# Altium schematic symbol library F1_MODULE.SchLib: 19 symbols (part 1 of 2)
Pins are listed as number, name and electrical type; pins without a type are passive.

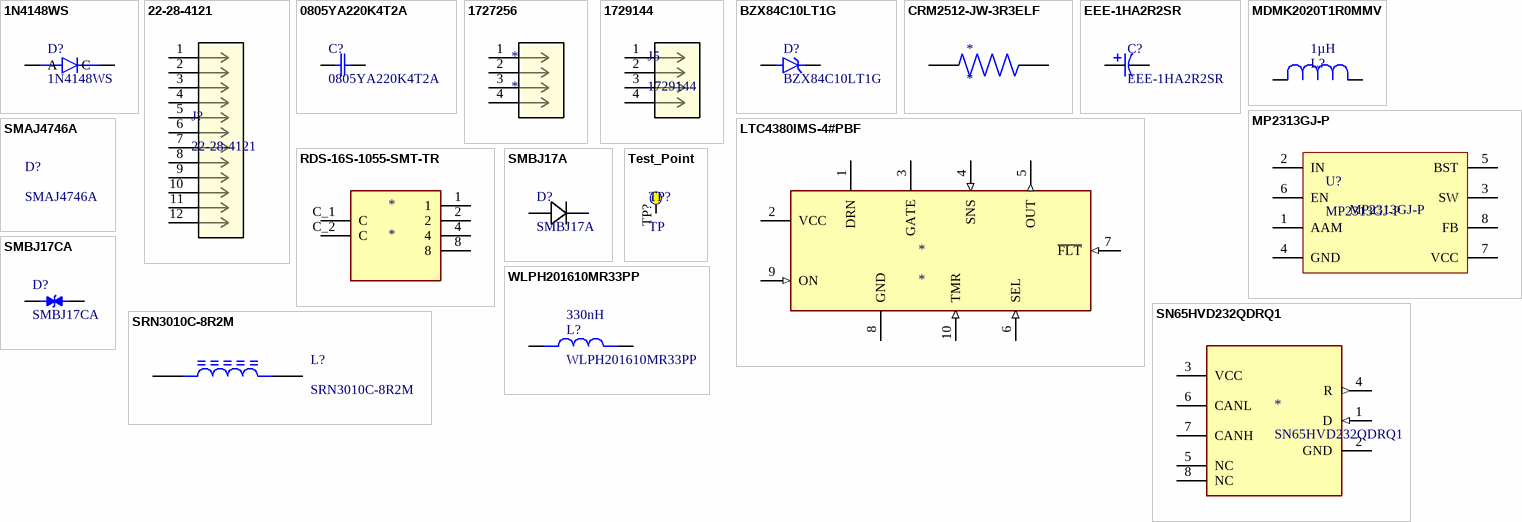
[diagram p0: symbols 1N4148WS to WLPH201610MR33PP]

## 1N4148WS
designator D?
Diode Ultra Fast Recovery Rectifier 75V 0.15A 2-Pin SOD-323F T/R; Manufacturer: onsemi; Manufacturer Lifecycle Status: ACTIVE; Average Rectified Current: 150mA; Value: 4pF; Element Configuration: Single; Forward Voltage: 1V; Max Forward Surge Current (Ifsm): 4A; Max Junction Temperature (Tj): 150°C; Max Power Dissipation: 200mW; Number of Elements: 1; Peak Reverse Current: 5µA; Recovery Time: 4ns; Supplier: RS; Supplier Part Number: 7613476P; Manufacturer Part Number: 1N4148WS; RoHS: Compliant; Category: Rectifier Diodes; Stock: 40930; Pricing: 500=0.051, 1000=0.044 (EUR); China RoHS: Compliant; Contact Plating: Tin; Forward Current: 150mA; Height: 900µm; Lead Free: Lead Free; Length: 1.8mm; Lifecycle Status: Production; Max Operating Temperature: 150°C; Max Output current: 150mA; Max Repetitive Reverse Voltage (Vrrm): 75V; Max Reverse Voltage (DC): 75V; Min Operating Temperature: -55°C; Mounting Technology: Surface Mount; Pins: 2; Number of Terminals: 2; Packaging: Cut Tape; Power Dissipation: 200mW; Radiation Hardening: No; REACH SVHC: Yes; Reverse Recovery Time: 4ns; Reverse Standoff Voltage: 75V; Reverse Voltage: 75V; Schedule B: 8541100070, 8541100070|8541100070|8541100070|8541100070|8541100070|8541100070|8541100070|8541100070|8541100070|8541100070|8541100070|8541100070|8541100070|8541100070|8541100070|8541100070|8541100070|8541100070|8541100070|8541100070|8541100070|8541100070|8541100070|85; Weight: 27.6mg; Width: 1.35mm; ComponentLink1URL: https://datasheet.octopart.com:443/1N4148WS-ON-Semiconductor-datasheet-154551630.pdf?src-supplier=Farnell; ComponentLink1Description: https://datasheet.octopart.com:443/1N4148WS-ON-Semiconductor-datasheet-154551630.pdf?src-supplier=Farnell; ComponentLink2URL: https://datasheet.octopart.com:443/1N4148WS-Fairchild-Semiconductor-datasheet-67878664.pdf?src-supplier=Farnell; ComponentLink2Description: https://datasheet.octopart.com:443/1N4148WS-Fairchild-Semiconductor-datasheet-67878664.pdf?src-supplier=Farnell; ComponentLink3URL: https://datasheet.octopart.com:443/1N4148WS-Fairchild-Semiconductor-datasheet-68650011.pdf?src-supplier=Farnell; ComponentLink3Description: https://datasheet.octopart.com:443/1N4148WS-Fairchild-Semiconductor-datasheet-68650011.pdf?src-supplier=Farnell; ComponentLink4URL: https://datasheet.octopart.com:443/1N4148WS-ON-Semiconductor-datasheet-11741836.pdf?src-supplier=Upverter; ComponentLink4Description: https://datasheet.octopart.com:443/1N4148WS-ON-Semiconductor-datasheet-11741836.pdf?src-supplier=Upverter; ComponentLink5URL: https://datasheet.octopart.com:443/1N4148WS-ON-Semiconductor-datasheet-137236190.pdf?src-supplier=Upverter; ComponentLink5Description: https://datasheet.octopart.com:443/1N4148WS-ON-Semiconductor-datasheet-137236190.pdf?src-supplier=Upverter; ComponentLink6URL: https://sigma.octopart.com:443/138895951/technical_drawing/ON-Semiconductor-1N4148WS.pdf?src-supplier=Upverter; ComponentLink6Description: https://sigma.octopart.com:443/138895951/technical_drawing/ON-Semiconductor-1N4148WS.pdf?src-supplier=Upverter; ComponentLink7URL: https://datasheet.octopart.com:443/1N4148WS-ON-Semiconductor-datasheet-41168538.pdf?src-supplier=IHS; ComponentLink7Description: https://datasheet.octopart.com:443/1N4148WS-ON-Semiconductor-datasheet-41168538.pdf?src-supplier=IHS; ComponentLink8URL: https://datasheet.octopart.com:443/1N4148WS-onsemi-datasheet-175423434.pdf?src-supplier=IHS; ComponentLink8Description: https://datasheet.octopart.com:443/1N4148WS-onsemi-datasheet-175423434.pdf?src-supplier=IHS; ComponentLink9URL: https://datasheet.octopart.com:443/1N4148WS-onsemi-datasheet-181265883.pdf?src-supplier=IHS; ComponentLink9Description: https://datasheet.octopart.com:443/1N4148WS-onsemi-datasheet-181265883.pdf?src-supplier=IHS; ComponentLink10URL: https://datasheet.octopart.com:443/1N4148WS-ON-Semiconductor-datasheet-85393213.pdf?src-supplier=onsemi; ComponentLink10Description: https://datasheet.octopart.com:443/1N4148WS-ON-Semiconductor-datasheet-85393213.pdf?src-supplier=onsemi; ComponentLink11URL: https://datasheet.octopart.com:443/1N4148WS-ON-Semiconductor-datasheet-86684483.pdf?src-supplier=onsemi; ComponentLink11Description: https://datasheet.octopart.com:443/1N4148WS-ON-Semiconductor-datasheet-86684483.pdf?src-supplier=onsemi; ComponentLink12URL: https://datasheet.octopart.com:443/1N4148WS-ON-Semiconductor-datasheet-86681927.pdf?src-supplier=element14+APAC; ComponentLink12Description: https://datasheet.octopart.com:443/1N4148WS-ON-Semiconductor-datasheet-86681927.pdf?src-supplier=element14+APAC; ComponentLink13URL: https://datasheet.octopart.com:443/1N4148WS-Fairchild-datasheet-514620.pdf?src-supplier=Fairchild+Semiconductor; ComponentLink13Description: https://datasheet.octopart.com:443/1N4148WS-Fairchild-datasheet-514620.pdf?src-supplier=Fairchild+Semiconductor; ComponentLink14URL: https://sigma.octopart.com:443/17343424/technical_drawing/Fairchild-Semiconductor-1N4148WS.pdf?src-supplier=Fairchild+Semiconductor; ComponentLink14Description: https://sigma.octopart.com:443/17343424/technical_drawing/Fairchild-Semiconductor-1N4148WS.pdf?src-supplier=Fairchild+Semiconductor; ComponentLink15URL: https://datasheet.octopart.com:443/1N4148WS-Fairchild-Semiconductor-datasheet-14041777.pdf?src-supplier=iiiC; ComponentLink15Description: https://datasheet.octopart.com:443/1N4148WS-Fairchild-Semiconductor-datasheet-14041777.pdf?src-supplier=iiiC; ComponentLink16URL: https://datasheet.octopart.com:443/1N4148WS-Fairchild-Semiconductor-datasheet-67909704.pdf?src-supplier=Newark; ComponentLink16Description: https://datasheet.octopart.com:443/1N4148WS-Fairchild-Semiconductor-datasheet-67909704.pdf?src-supplier=Newark; ComponentLink17URL: https://datasheet.octopart.com:443/1N4148WS-Fairchild-Semiconductor-datasheet-68364970.pdf?src-supplier=Newark; ComponentLink17Description: https://datasheet.octopart.com:443/1N4148WS-Fairchild-Semiconductor-datasheet-68364970.pdf?src-supplier=Newark; ComponentLink18URL: http://sigma.octopart.com:80/150599222/rohs_statement/ON-Semiconductor-1N4148WS.pdf?src-supplier=Compliance+Statements; ComponentLink18Description: http://sigma.octopart.com:80/150599222/rohs_statement/ON-Semiconductor-1N4148WS.pdf?src-supplier=Compliance+Statements; ComponentLink19URL: http://sigma.octopart.com:80/17343422/reach_statement/Fairchild-Semiconductor-1N4148WS.pdf?src-supplier=Compliance+Statements; ComponentLink19Description: http://sigma.octopart.com:80/17343422/reach_statement/Fairchild-Semiconductor-1N4148WS.pdf?src-supplier=Compliance+Statements; ComponentLink20URL: http://sigma.octopart.com:80/17343423/materials_sheet/Fairchild-Semiconductor-1N4148WS.pdf?src-supplier=Compliance+Statements; ComponentLink20Description: http://sigma.octopart.com:80/17343423/materials_sheet/Fairchild-Semiconductor-1N4148WS.pdf?src-supplier=Compliance+Statements; ComponentLink21URL: http://sigma.octopart.com:80/33026183/reach_statement/Fairchild-Semiconductor-1N4148WS.pdf?src-supplier=Compliance+Statements; ComponentLink21Description: http://sigma.octopart.com:80/33026183/reach_statement/Fairchild-Semiconductor-1N4148WS.pdf?src-supplier=Compliance+Statements; ComponentLink22URL: http://sigma.octopart.com:80/33026185/materials_sheet/Fairchild-Semiconductor-1N4148WS.pdf?src-supplier=Compliance+Statements; ComponentLink22Description: http://sigma.octopart.com:80/33026185/materials_sheet/Fairchild-Semiconductor-1N4148WS.pdf?src-supplier=Compliance+Statements; ComponentLink23URL: http://sigma.octopart.com:80/reach_statement/ON-Semiconductor-company-79.pdf?src-supplier=Compliance+Statements; ComponentLink23Description: http://sigma.octopart.com:80/reach_statement/ON-Semiconductor-company-79.pdf?src-supplier=Compliance+Statements; ComponentLink24URL: http://sigma.octopart.com:80/reach_statement/Fairchild-Semiconductor-company-9.pdf?src-supplier=Compliance+Statements; ComponentLink24Description: http://sigma.octopart.com:80/reach_statement/Fairchild-Semiconductor-company-9.pdf?src-supplier=Compliance+Statements; ComponentLink25URL: http://sigma.octopart.com:80/rohs_statement/Fairchild-Semiconductor-company-10.pdf?src-supplier=Compliance+Statements; ComponentLink25Description: http://sigma.octopart.com:80/rohs_statement/Fairchild-Semiconductor-company-10.pdf?src-supplier=Compliance+Statements; ComponentLink26URL: http://sigma.octopart.com:80/rohs_statement/Fairchild-Semiconductor-company-11.pdf?src-supplier=Compliance+Statements; ComponentLink26Description: http://sigma.octopart.com:80/rohs_statement/Fairchild-Semiconductor-company-11.pdf?src-supplier=Compliance+Statements; ComponentLink27URL: https://octopart.com:443/opatz8j6/c1?t=1OmHh4NJTXKCkb5wrA0hduP2jSjjwfnHWiavLQ4ngBfysFzTaHmH6nHvTucDV-B2O-MDJQ2axzG3m7pQWLeVWG7srVrkh4NGbnBnlNZO-6YvFZQaCf2pnajLKu10E0vDRh8hBeoXspAHt7uTrrKp0Nrfyna9_-3Q9g1KFLPO5x2e_2WPzlWIAd0S7_3b7Ts18wto9QiopHYkCO7lspN9FD86xikSy0J2zEvHMbHfZKHxUhjXLfd1CVoEuwYuGmjWLJWQNxOxOpN1Uz1HG-l28pmFj4Iwpdjl_bauQFCLAa4kH93r3xm3WSUTNZ-7itdl_qILozCqlFFb1dwE_6pqjLhFmoprn_g94l-X&src-supplier=Compliance+Statements; ComponentLink27Description: https://octopart.com:443/opatz8j6/c1?t=1OmHh4NJTXKCkb5wrA0hduP2jSjjwfnHWiavLQ4ngBfysFzTaHmH6nHvTucDV-B2O-MDJQ2axzG3m7pQWLeVWG7srVrkh4NGbnBnlNZO-6YvFZQaCf2pnajLKu10E0vDRh8hBeoXspAHt7uTrrKp0Nrfyna9_-3Q9g1KFLPO5x2e_2WPzlWIAd0S7_3b7Ts18wto9QiopHYkCO7lspN9FD86xikSy0J2zEvHMbHfZKHxUhjXLfd1CVoEuwYuGmjWLJWQNxOxOpN1Uz1HG-l28pmFj4Iwpdjl_bauQFCLAa4kH93r3xm3WSUTNZ-7itdl_qILozCqlFFb1dwE_6pqjLhFmoprn_g94l-X&src-supplier=Compliance+Statements; ComponentLink28URL: https://octopart.com:443/opatz8j6/c1?t=6450IfVOB2zZEuwuRz4xfzpK9bszWwwiGNlRO2jvw-fY0DFZJpFzOkz_M_GVnLN67xQ32Al7ZRIOSX2fPnApMdJSXwOVQIFtXomJFVInF_bGsK7WMYRYR3M47Jn7AXIDAu9t5FFYiVrpnExxyCfG_QObsuhCMgIJjizqmG3BVze06Otd7Fj6LPFpMcXZZAMO1mWuPTS8pLt5kADT123iycIAWeIAS9KgO80LH8PUIkauHGB_xj-tiY1NOQPWZwbN339OUVdB5iOAXcnt-y8hETtXP_1hyLOFja_q-lJol69SLfbNjTRclRfdM6McWVYAYpDuB1Z6txPcOq52uyClJ1olaLQJdp4A-MAVkQ&src-supplier=Compliance+Statements; ComponentLink28Description: https://octopart.com:443/opatz8j6/c1?t=6450IfVOB2zZEuwuRz4xfzpK9bszWwwiGNlRO2jvw-fY0DFZJpFzOkz_M_GVnLN67xQ32Al7ZRIOSX2fPnApMdJSXwOVQIFtXomJFVInF_bGsK7WMYRYR3M47Jn7AXIDAu9t5FFYiVrpnExxyCfG_QObsuhCMgIJjizqmG3BVze06Otd7Fj6LPFpMcXZZAMO1mWuPTS8pLt5kADT123iycIAWeIAS9KgO80LH8PUIkauHGB_xj-tiY1NOQPWZwbN339OUVdB5iOAXcnt-y8hETtXP_1hyLOFja_q-lJol69SLfbNjTRclRfdM6McWVYAYpDuB1Z6txPcOq52uyClJ1olaLQJdp4A-MAVkQ&src-supplier=Compliance+Statements
footprint DIODE
pins: A, C

## 22-28-4121
designator J?
KK 254 Breakaway Header, Vertical, 12 Circuits, Tin (Sn) Plating, Mating Pin Length 8.13mm; Manufacturer: Molex; Manufacturer Lifecycle Status: ACTIVE; Connector Type: Male Pin; Contact Resistance: 20mΩ; Current Rating: 4A; Gender: Male; Insulation Resistance: 50GΩ; Max Voltage Rating (AC): 250V; Number of Circuits: 12; Pitch: 2.54mm; Supplier: Farnell; Supplier Part Number: 4232426; Manufacturer Part Number: 22-28-4121; RoHS: Compliant; Category: Headers and Wire Housings; Stock: 4391; Pricing: 300=0.506, 900=0.491 (EUR); China RoHS: Compliant; Color: Black; Contact Gender: Male; Contact Material: Bronze; Contact Mating Length: 8.128mm; Contact Plating: Tin; Country of Origin: US; Depth: 2.49mm; Housing Color: Black; Housing Material: Thermoplastic; Lead Free: Lead Free; Length: 30.48mm; Lifecycle Status: Production; Max Operating Temperature: 75°C; Min Operating Temperature: -40°C; Mounting Technology: Through Hole; Number of Contacts: 12; Pins: 12; Number of Positions: 12; Number of Rows: 1; Orientation: Vertical; Packaging: Bulk; Plating: Tin; REACH SVHC: Yes; Terminal Pitch: 2.54mm; Termination: Solder; ComponentLink1URL: https://datasheet.octopart.com:443/22-28-4121-Molex-datasheet-166051265.pdf?src-supplier=IHS; ComponentLink1Description: https://datasheet.octopart.com:443/22-28-4121-Molex-datasheet-166051265.pdf?src-supplier=IHS; ComponentLink2URL: https://datasheet.octopart.com:443/22-28-4121-Molex-datasheet-16300599.pdf?src-supplier=Molex; ComponentLink2Description: https://datasheet.octopart.com:443/22-28-4121-Molex-datasheet-16300599.pdf?src-supplier=Molex; ComponentLink3URL: https://sigma.octopart.com:443/16300370/technical_drawing/Molex-22-28-4121.pdf?src-supplier=Molex; ComponentLink3Description: https://sigma.octopart.com:443/16300370/technical_drawing/Molex-22-28-4121.pdf?src-supplier=Molex; ComponentLink4URL: https://datasheet.octopart.com:443/022284121-Molex-datasheet-8334776.pdf?src-supplier=Molex; ComponentLink4Description: https://datasheet.octopart.com:443/022284121-Molex-datasheet-8334776.pdf?src-supplier=Molex; ComponentLink5URL: https://datasheet.octopart.com:443/22-28-4121-Molex-datasheet-147975.pdf?src-supplier=DigiKey; ComponentLink5Description: https://datasheet.octopart.com:443/22-28-4121-Molex-datasheet-147975.pdf?src-supplier=DigiKey; ComponentLink6URL: http://sigma.octopart.com:80/16300600/rohs_statement/Molex-22-28-4121.pdf?src-supplier=Compliance+Statements; ComponentLink6Description: http://sigma.octopart.com:80/16300600/rohs_statement/Molex-22-28-4121.pdf?src-supplier=Compliance+Statements; ComponentLink7URL: http://sigma.octopart.com:80/conflict_mineral_statement/Molex-company-72.pdf?src-supplier=Compliance+Statements; ComponentLink7Description: http://sigma.octopart.com:80/conflict_mineral_statement/Molex-company-72.pdf?src-supplier=Compliance+Statements; ComponentLink8URL: http://sigma.octopart.com:80/rohs_statement/Molex-company-73.pdf?src-supplier=Compliance+Statements; ComponentLink8Description: http://sigma.octopart.com:80/rohs_statement/Molex-company-73.pdf?src-supplier=Compliance+Statements; ComponentLink9URL: http://sigma.octopart.com:80/reach_statement/Molex-company-74.pdf?src-supplier=Compliance+Statements; ComponentLink9Description: http://sigma.octopart.com:80/reach_statement/Molex-company-74.pdf?src-supplier=Compliance+Statements
footprint 12 POS_2.54MM_MOLEX
pins: 1, 2, 3, 4, 5, 6, 7, 8, 9, 10, 11, 12

## 0805YA220K4T2A
designator C?
Cap Ceramic 22pF 16V C0G 10% 0805 T/R; Manufacturer: KYOCERA AVX; Supplier: Mouser; Supplier Part Number: 581-0805YA220K4T2A; Manufacturer Part Number: 0805YA220K4T2A; RoHS: Compliant; Category: Ceramic Capacitors; Stock: 7924; Pricing: 1=0.21, 10=0.121, 50=0.121, 100=0.073, 1000=0.05, 10000=0.037 (USD); Value: 22pF; Case/Package: 0805; Voltage Rating (DC): 16V; ComponentLink1URL: https://datasheet.octopart.com/0805YA220K4T2A-KYOCERA-AVX-datasheet-13516023.pdf; ComponentLink1Description: https://datasheet.octopart.com/0805YA220K4T2A-KYOCERA-AVX-datasheet-13516023.pdf; ComponentLink2URL: http://sigma.octopart.com:80/reach_statement/AVX-company-19.pdf?src-supplier=Compliance+Statements; ComponentLink2Description: http://sigma.octopart.com:80/reach_statement/AVX-company-19.pdf?src-supplier=Compliance+Statements; ComponentLink3URL: http://sigma.octopart.com:80/conflict_mineral_statement/AVX-company-34.pdf?src-supplier=Compliance+Statements; ComponentLink3Description: http://sigma.octopart.com:80/conflict_mineral_statement/AVX-company-34.pdf?src-supplier=Compliance+Statements
footprint CAP_0805
pins: 1, 2

## 1727256
designator *
PCB terminal, 4 pole, pitch 3.81 mm, AWG 26-16, 8 A, screw connection, black, 1727256; Manufacturer: Phoenix Contact; Approvals: UL; Current: 13.5A; Current Rating: 8A; Max Supply Voltage: 160V; Number of Circuits: 4; Number of Levels: 1; Pitch: 3.81mm; Voltage: 300V; Wire/Cable Gauge: 16AWG; Wire Gauge (Max): 30AWG; Supplier: DigiKey; Supplier Part Number: 277-6702-ND; Manufacturer Part Number: 1727256; RoHS: Compliant; Category: Terminal Blocks; Stock: 25; Pricing: 1=3.57, 23=2.55783 (USD); China RoHS: Compliant; Color: Black; Contact Material: Tin; Depth: 7.3mm; Flammability Rating: UL94 V-0; Height: 9.3mm; Housing Color: Black; Housing Material: Polyamide; Lead Free: Lead Free; Length: 22.86mm; Lifecycle Status: EOL; Material: Polyamide; Max Current Rating: 8A; Mounting Technology: Screw; Number of Contacts: 4; Pins: 4; Number of Positions: 4; Number of Positions Per Level: 4; Number of Rows: 1; Orientation: Straight; REACH SVHC: Yes; Termination: Screw; Voltage Rating: 160V; Weight: 4.734002g; Width: 22.86mm; Wire Gauge (Min): 16AWG; ComponentLink1URL: https://datasheet.octopart.com:443/1727256-Phoenix-Contact-datasheet-181074677.pdf?src-supplier=IHS; ComponentLink1Description: https://datasheet.octopart.com:443/1727256-Phoenix-Contact-datasheet-181074677.pdf?src-supplier=IHS; ComponentLink2URL: https://datasheet.octopart.com:443/1727256-Phoenix-Contact-datasheet-154778731.pdf?src-supplier=Electro+Sonic; ComponentLink2Description: https://datasheet.octopart.com:443/1727256-Phoenix-Contact-datasheet-154778731.pdf?src-supplier=Electro+Sonic; ComponentLink3URL: https://datasheet.octopart.com:443/1727256-Phoenix-Contact-datasheet-177320497.pdf?src-supplier=Burklin+Elektronik; ComponentLink3Description: https://datasheet.octopart.com:443/1727256-Phoenix-Contact-datasheet-177320497.pdf?src-supplier=Burklin+Elektronik; ComponentLink4URL: https://datasheet.octopart.com:443/1727256-Phoenix-Contact-datasheet-110782489.pdf?src-supplier=RS+(Formerly+Allied+Electronics); ComponentLink4Description: https://datasheet.octopart.com:443/1727256-Phoenix-Contact-datasheet-110782489.pdf?src-supplier=RS+(Formerly+Allied+Electronics); ComponentLink5URL: https://datasheet.octopart.com:443/1727256-Phoenix-Contact-datasheet-62062421.pdf?src-supplier=TME; ComponentLink5Description: https://datasheet.octopart.com:443/1727256-Phoenix-Contact-datasheet-62062421.pdf?src-supplier=TME; ComponentLink6URL: https://datasheet.octopart.com:443/1727256-Phoenix-Contact-datasheet-33457439.pdf?src-supplier=MRO+Stop; ComponentLink6Description: https://datasheet.octopart.com:443/1727256-Phoenix-Contact-datasheet-33457439.pdf?src-supplier=MRO+Stop
footprint CONN_1727256_PXC
pins: 1, 2, 3, 4

## 1729144
designator J5
Block, Terminal; 13.5 A; 250 V; 5.08 mm; 26 to 16 AWG; 4; Screw; Solder; 4 kV; Manufacturer: Phoenix Contact; Approvals: CB, CSA, cUL; Current: 10A; Current Rating: 13.5A; Max Supply Voltage: 250V; Number of Circuits: 4; Number of Levels: 1; Pitch: 5.08mm; Stripping Length: 6mm; Test Voltage: 4kV; Voltage: 300V; Voltage Rating: 400V; Wire/Cable Gauge: 16AWG; Wire Gauge (Max): 26AWG; Supplier: RS; Supplier Part Number: 2901264; Manufacturer Part Number: 1729144; RoHS: Compliant; Category: Terminal Blocks; Stock: 210; Pricing: 5=1.936, 125=1.748, 375=1.65, 1000=1.462, 2000=1.352 (EUR); China RoHS: Compliant; Color: Green; Connector Type: Screw; Contact Material: Tin; Depth: 8.1mm; Flammability Rating: UL94 V-0; Height: 10.15mm; Housing Color: Green; Insulation Material: Nylon; Lead Free: Lead Free; Lead Pitch: 5.08mm; Length: 20.32mm; Lifecycle Status: Production; Max Current Rating: 13.5A; Max Operating Temperature: 100°C; Min Operating Temperature: -20°C; Mounting Technology: Screw; Number of Contacts: 4; Pins: 4; Number of Poles: 4; Number of Positions: 4; Number of Positions Per Level: 4; Number of Rows: 1; Orientation: Straight; Packaging: Bulk; Radiation Hardening: No; REACH SVHC: No; Termination: Screw; Voltage Rating (AC): 250V; Weight: 3.679995g; Width: 10mm; Wire Gauge (Min): 26AWG; ComponentLink1URL: https://datasheet.octopart.com:443/1729144-Phoenix-Contact-datasheet-181074908.pdf?src-supplier=IHS; ComponentLink1Description: https://datasheet.octopart.com:443/1729144-Phoenix-Contact-datasheet-181074908.pdf?src-supplier=IHS; ComponentLink2URL: https://datasheet.octopart.com:443/1729144-Phoenix-Contact-datasheet-83960592.pdf?src-supplier=element14+APAC; ComponentLink2Description: https://datasheet.octopart.com:443/1729144-Phoenix-Contact-datasheet-83960592.pdf?src-supplier=element14+APAC; ComponentLink3URL: https://datasheet.octopart.com:443/1729144-Phoenix-Contact-datasheet-20682991.pdf?src-supplier=Newark; ComponentLink3Description: https://datasheet.octopart.com:443/1729144-Phoenix-Contact-datasheet-20682991.pdf?src-supplier=Newark; ComponentLink4URL: https://datasheet.octopart.com:443/1729144-Phoenix-Contact-datasheet-21212956.pdf?src-supplier=Newark; ComponentLink4Description: https://datasheet.octopart.com:443/1729144-Phoenix-Contact-datasheet-21212956.pdf?src-supplier=Newark; ComponentLink5URL: https://datasheet.octopart.com:443/1729144-Phoenix-Contact-datasheet-169855811.pdf?src-supplier=Master+Electronics; ComponentLink5Description: https://datasheet.octopart.com:443/1729144-Phoenix-Contact-datasheet-169855811.pdf?src-supplier=Master+Electronics; ComponentLink6URL: https://datasheet.octopart.com:443/1729144-Phoenix-Contact-datasheet-154778803.pdf?src-supplier=Electro+Sonic; ComponentLink6Description: https://datasheet.octopart.com:443/1729144-Phoenix-Contact-datasheet-154778803.pdf?src-supplier=Electro+Sonic; ComponentLink7URL: https://datasheet.octopart.com:443/1729144-Phoenix-Contact-datasheet-9657250.pdf?src-supplier=TodayComponents; ComponentLink7Description: https://datasheet.octopart.com:443/1729144-Phoenix-Contact-datasheet-9657250.pdf?src-supplier=TodayComponents; ComponentLink8URL: https://datasheet.octopart.com:443/1729144-Phoenix-Contact-datasheet-177321331.pdf?src-supplier=Burklin+Elektronik; ComponentLink8Description: https://datasheet.octopart.com:443/1729144-Phoenix-Contact-datasheet-177321331.pdf?src-supplier=Burklin+Elektronik; ComponentLink9URL: https://datasheet.octopart.com:443/1729144-Phoenix-Contact-datasheet-33458667.pdf?src-supplier=MRO+Stop; ComponentLink9Description: https://datasheet.octopart.com:443/1729144-Phoenix-Contact-datasheet-33458667.pdf?src-supplier=MRO+Stop; ComponentLink10URL: https://datasheet.octopart.com:443/1729144-Phoenix-Contact-datasheet-11779056.pdf?src-supplier=Arrow+Electronics; ComponentLink10Description: https://datasheet.octopart.com:443/1729144-Phoenix-Contact-datasheet-11779056.pdf?src-supplier=Arrow+Electronics; ComponentLink11URL: https://datasheet.octopart.com:443/1729144-Phoenix-Contact-datasheet-62122477.pdf?src-supplier=RS+(Formerly+Allied+Electronics); ComponentLink11Description: https://datasheet.octopart.com:443/1729144-Phoenix-Contact-datasheet-62122477.pdf?src-supplier=RS+(Formerly+Allied+Electronics); ComponentLink12URL: https://datasheet.octopart.com:443/1729144-Phoenix-Contact-datasheet-100427.pdf?src-supplier=RS+(Formerly+Allied+Electronics); ComponentLink12Description: https://datasheet.octopart.com:443/1729144-Phoenix-Contact-datasheet-100427.pdf?src-supplier=RS+(Formerly+Allied+Electronics); ComponentLink13URL: https://datasheet.octopart.com:443/1729144-Phoenix-Contact-datasheet-7644.pdf?src-supplier=DigiKey; ComponentLink13Description: https://datasheet.octopart.com:443/1729144-Phoenix-Contact-datasheet-7644.pdf?src-supplier=DigiKey
footprint PHOENIX_1729144
pins: 1, 2, 3, 4

## BZX84C10LT1G
designator D?
Diode, Zener, Vr 10V, If 10MA, Pkg SOT-23 (TO-236), Vf 0.9V, Cj 130PF, Tj +150C, Ir 5MA; Manufacturer: onsemi; Manufacturer Lifecycle Status: ACTIVE; Breakdown Voltage: 10.6V; Element Configuration: Single; ESD Protection: Yes; Forward Voltage: 900mV; Impedance: 20Ω; Material: Plastic; Max Junction Temperature (Tj): 150°C; Max Power Dissipation: 250mW; Max Reverse Leakage Current: 200nA; Number of Elements: 1; Polarity: Unidirectional; Power Rating: 225mW; Reverse Voltage: 7V; Tolerance: 6%; Supplier: RS; Supplier Part Number: 6255256P; Manufacturer Part Number: BZX84C10LT1G; RoHS: Compliant; Category: Zener Diodes; Stock: 7023; Pricing: 10=0.08, 100=0.07, 500=0.06 (EUR); Case/Package: SOT-23; China RoHS: Compliant; Contact Plating: Tin; Halogen Free: Halogen Free; Height: 1.11mm; Lead Free: Lead Free; Length: 3.0226mm; Lifecycle Status: Production; Max Operating Temperature: 150°C; Min Operating Temperature: -65°C; Pins: 3; Number of Terminals: 3; Packaging: Tape and Reel; Peak Reverse Current: 200nA; Power Dissipation: 250mW; Radiation Hardening: No; REACH SVHC: Yes; Reference Voltage: 10V; Schedule B: 8541100050, 8541100050|8541100050|8541100050|8541100050|8541100050; Test Current: 5mA; Voltage Rating (DC): 10V; Voltage Tolerance: 6%; Width: 1.397mm; Working Voltage: 10V; Zener Current: 5mA; Zener Voltage: 10V; ComponentLink1URL: https://datasheet.octopart.com:443/BZX84C10LT1G-ON-Semiconductor-datasheet-12511411.pdf?src-supplier=Master+Electronics; ComponentLink1Description: https://datasheet.octopart.com:443/BZX84C10LT1G-ON-Semiconductor-datasheet-12511411.pdf?src-supplier=Master+Electronics; ComponentLink2URL: https://datasheet.octopart.com:443/BZX84C10LT1G-ON-Semiconductor-datasheet-6396728.pdf?src-supplier=Upverter; ComponentLink2Description: https://datasheet.octopart.com:443/BZX84C10LT1G-ON-Semiconductor-datasheet-6396728.pdf?src-supplier=Upverter; ComponentLink3URL: https://datasheet.octopart.com:443/BZX84C10LT1G-ON-Semiconductor-datasheet-153443.pdf?src-supplier=Upverter; ComponentLink3Description: https://datasheet.octopart.com:443/BZX84C10LT1G-ON-Semiconductor-datasheet-153443.pdf?src-supplier=Upverter; ComponentLink4URL: https://sigma.octopart.com:443/138897241/technical_drawing/ON-Semiconductor-BZX84C10LT1G.pdf?src-supplier=Upverter; ComponentLink4Description: https://sigma.octopart.com:443/138897241/technical_drawing/ON-Semiconductor-BZX84C10LT1G.pdf?src-supplier=Upverter; ComponentLink5URL: https://datasheet.octopart.com:443/BZX84C10LT1G-onsemi-datasheet-180958179.pdf?src-supplier=IHS; ComponentLink5Description: https://datasheet.octopart.com:443/BZX84C10LT1G-onsemi-datasheet-180958179.pdf?src-supplier=IHS; ComponentLink6URL: https://datasheet.octopart.com:443/BZX84C10LT1G-ON-Semiconductor-datasheet-78758887.pdf?src-supplier=TME; ComponentLink6Description: https://datasheet.octopart.com:443/BZX84C10LT1G-ON-Semiconductor-datasheet-78758887.pdf?src-supplier=TME; ComponentLink7URL: https://datasheet.octopart.com:443/BZX84C10LT1G-onsemi-datasheet-188912630.pdf?src-supplier=TME; ComponentLink7Description: https://datasheet.octopart.com:443/BZX84C10LT1G-onsemi-datasheet-188912630.pdf?src-supplier=TME; ComponentLink8URL: https://datasheet.octopart.com:443/BZX84C10LT1G-ON-Semiconductor-datasheet-34436524.pdf?src-supplier=Farnell; ComponentLink8Description: https://datasheet.octopart.com:443/BZX84C10LT1G-ON-Semiconductor-datasheet-34436524.pdf?src-supplier=Farnell; ComponentLink9URL: https://datasheet.octopart.com:443/BZX84C10LT1G-ON-Semiconductor-datasheet-21210846.pdf?src-supplier=Newark; ComponentLink9Description: https://datasheet.octopart.com:443/BZX84C10LT1G-ON-Semiconductor-datasheet-21210846.pdf?src-supplier=Newark; ComponentLink10URL: https://datasheet.octopart.com:443/BZX84C10LT1G-ON-Semiconductor-datasheet-10979668.pdf?src-supplier=Newark; ComponentLink10Description: https://datasheet.octopart.com:443/BZX84C10LT1G-ON-Semiconductor-datasheet-10979668.pdf?src-supplier=Newark; ComponentLink11URL: https://datasheet.octopart.com:443/BZX84C10LT1G-ON-Semiconductor-datasheet-14050930.pdf?src-supplier=iiiC; ComponentLink11Description: https://datasheet.octopart.com:443/BZX84C10LT1G-ON-Semiconductor-datasheet-14050930.pdf?src-supplier=iiiC; ComponentLink12URL: https://datasheet.octopart.com:443/BZX84C10LT1G-ON-Semiconductor-datasheet-9574943.pdf?src-supplier=RS+(Formerly+Allied+Electronics); ComponentLink12Description: https://datasheet.octopart.com:443/BZX84C10LT1G-ON-Semiconductor-datasheet-9574943.pdf?src-supplier=RS+(Formerly+Allied+Electronics); ComponentLink13URL: http://sigma.octopart.com:80/15540786/rohs_certificate/ON-Semiconductor-BZX84C10LT1G.pdf?src-supplier=Compliance+Statements; ComponentLink13Description: http://sigma.octopart.com:80/15540786/rohs_certificate/ON-Semiconductor-BZX84C10LT1G.pdf?src-supplier=Compliance+Statements; ComponentLink14URL: http://sigma.octopart.com:80/15674435/materials_sheet/ON-Semiconductor-BZX84C10LT1G.csv?src-supplier=Compliance+Statements; ComponentLink14Description: http://sigma.octopart.com:80/15674435/materials_sheet/ON-Semiconductor-BZX84C10LT1G.csv?src-supplier=Compliance+Statements; ComponentLink15URL: http://sigma.octopart.com:80/150606075/rohs_statement/ON-Semiconductor-BZX84C10LT1G.pdf?src-supplier=Compliance+Statements; ComponentLink15Description: http://sigma.octopart.com:80/150606075/rohs_statement/ON-Semiconductor-BZX84C10LT1G.pdf?src-supplier=Compliance+Statements; ComponentLink16URL: http://sigma.octopart.com:80/reach_statement/ON-Semiconductor-company-79.pdf?src-supplier=Compliance+Statements; ComponentLink16Description: http://sigma.octopart.com:80/reach_statement/ON-Semiconductor-company-79.pdf?src-supplier=Compliance+Statements; ComponentLink17URL: https://octopart.com:443/opatz8j6/c1?t=GppU8gmEnEDCaF0ROwTZ6F6E4XHQuRuAAlQpl1PGYKZLFmK-qZ7dW7HffP9GJrdo2tnL9V3uNW3mkeJpkiq-UCGWrJwp6JnJoJoA2eJw7MCJag7_nSnznBYg_-ueqMTPi9B7PuvaEgv7NO2_aljXbIOX3xXe-YAx5NXbXDqeJde6kTJLswZewD4oa6FRLm92wFtcb1SMY1HXiQnf1M8WODEosxRp6CfkKsjD7r7lmCwsBX-EyRluN9FgPpzuLgYLwyeeNtIoVwsgROm8cJIyzzcdGd2uepz8WRVrkvf0V05SRmYB5K5k9f7_DCiFBLaQgItykxZL8-Tcqsiqh5MXTgKCgRyFl548QuTJoVQ&src-supplier=Compliance+Statements; ComponentLink17Description: https://octopart.com:443/opatz8j6/c1?t=GppU8gmEnEDCaF0ROwTZ6F6E4XHQuRuAAlQpl1PGYKZLFmK-qZ7dW7HffP9GJrdo2tnL9V3uNW3mkeJpkiq-UCGWrJwp6JnJoJoA2eJw7MCJag7_nSnznBYg_-ueqMTPi9B7PuvaEgv7NO2_aljXbIOX3xXe-YAx5NXbXDqeJde6kTJLswZewD4oa6FRLm92wFtcb1SMY1HXiQnf1M8WODEosxRp6CfkKsjD7r7lmCwsBX-EyRluN9FgPpzuLgYLwyeeNtIoVwsgROm8cJIyzzcdGd2uepz8WRVrkvf0V05SRmYB5K5k9f7_DCiFBLaQgItykxZL8-Tcqsiqh5MXTgKCgRyFl548QuTJoVQ&src-supplier=Compliance+Statements; ComponentLink18URL: https://octopart.com:443/opatz8j6/c1?t=_D8oOeofT_nlZXXDSNMTYVk0Lx0m_xqk4w8Ob3xugR1cyatEwrQZb490YuLXEwvaZthYDGBNAOgT8DXvXi3yCg9XkiraQVIJ1wbwuJ1myN0h6CTPNY0EtA8Gm6cLTxqOfOqnmJV7x6_0T4vGRSTDo4iriltVleGqCjpzvTem9xpMq-AF6aU5DxYSvYHr47Me50tQLMVy2sLjxRvWIIiike6EX0Mn2dVd0Tta2WEuQlntMwvOicgbG2EEuNkksJZQ1rYXvdhdmPb_07yfAmdTgohuaUMrM3a9MGplhErkM016UCx_TU1V_tH6P-5Y_niklssnm_Dx-ZTSDna1L5jR3ERM4wAvjACbE8w1SFqO&src-supplier=Compliance+Statements; ComponentLink18Description: https://octopart.com:443/opatz8j6/c1?t=_D8oOeofT_nlZXXDSNMTYVk0Lx0m_xqk4w8Ob3xugR1cyatEwrQZb490YuLXEwvaZthYDGBNAOgT8DXvXi3yCg9XkiraQVIJ1wbwuJ1myN0h6CTPNY0EtA8Gm6cLTxqOfOqnmJV7x6_0T4vGRSTDo4iriltVleGqCjpzvTem9xpMq-AF6aU5DxYSvYHr47Me50tQLMVy2sLjxRvWIIiike6EX0Mn2dVd0Tta2WEuQlntMwvOicgbG2EEuNkksJZQ1rYXvdhdmPb_07yfAmdTgohuaUMrM3a9MGplhErkM016UCx_TU1V_tH6P-5Y_niklssnm_Dx-ZTSDna1L5jR3ERM4wAvjACbE8w1SFqO&src-supplier=Compliance+Statements
footprint SOT95P240X111-3N
footprint SOT95P240X111-3N
pins: 1 A, 3 K

## CRM2512-JW-3R3ELF
designator *
Res Thick Film 2512 3.3 Ohm 5% 2W ±200ppm/C Pad SMD T/R; Manufacturer: Bourns; Manufacturer Part Number: CRM2512-JW-3R3ELF; Value: 3.3Ω; Temperature Coefficient: 200ppm/°C; Working Voltage: 300V; Supplier: Farnell; Supplier Part Number: 2908504; RoHS: Compliant; Category: Chip SMD Resistors; Stock: 3794; Pricing: 10=0.241, 100=0.159, 500=0.128, 1000=0.119, 2000=0.108, 4000=0.0989 (EUR); Case/Package: 2512; Case Code (Imperial): 2512; Case Code (Metric): 6432; China RoHS: Non-Compliant; Composition: Thick Film; Height: 600µm; Length: 6.2992mm; Lifecycle Status: Production; Max Operating Temperature: 155°C; Max Power Dissipation: 2W; Min Operating Temperature: -55°C; Mounting Technology: Surface Mount; Number of Terminals: 2; Number of Terminations: 2; Packaging: Tape & Reel (TR); Power Dissipation: 2W; Power Rating: 2W; REACH SVHC: Yes; Schedule B: 8533210045, 8533210045|8533210045|8533210045|8533210045|8533210045; Tolerance: 5%; Width: 3.1mm; ComponentLink1URL: https://datasheet.octopart.com:443/CRM2512-JW-3R3ELF-Bourns-datasheet-170520297.pdf?src-supplier=IHS; ComponentLink1Description: https://datasheet.octopart.com:443/CRM2512-JW-3R3ELF-Bourns-datasheet-170520297.pdf?src-supplier=IHS; ComponentLink2URL: https://datasheet.octopart.com:443/CRM2512-JW-3R3ELF-Bourns-datasheet-47549200.pdf?src-supplier=Burklin+Elektronik; ComponentLink2Description: https://datasheet.octopart.com:443/CRM2512-JW-3R3ELF-Bourns-datasheet-47549200.pdf?src-supplier=Burklin+Elektronik; ComponentLink3URL: https://datasheet.octopart.com:443/CRM2512-JW-3R3ELF-Bourns-datasheet-164353756.pdf?src-supplier=JRH+Electronics; ComponentLink3Description: https://datasheet.octopart.com:443/CRM2512-JW-3R3ELF-Bourns-datasheet-164353756.pdf?src-supplier=JRH+Electronics; ComponentLink4URL: https://datasheet.octopart.com:443/CRM2512-JW-3R3ELF-Bourns-datasheet-154729672.pdf?src-supplier=Electro+Sonic; ComponentLink4Description: https://datasheet.octopart.com:443/CRM2512-JW-3R3ELF-Bourns-datasheet-154729672.pdf?src-supplier=Electro+Sonic; ComponentLink5URL: https://datasheet.octopart.com:443/CRM2512-JW-3R3ELF-Bourns-datasheet-182141858.pdf?src-supplier=Master+Electronics; ComponentLink5Description: https://datasheet.octopart.com:443/CRM2512-JW-3R3ELF-Bourns-datasheet-182141858.pdf?src-supplier=Master+Electronics; ComponentLink6URL: http://sigma.octopart.com:80/conflict_mineral_statement/Bourns-company-36.pdf?src-supplier=Compliance+Statements; ComponentLink6Description: http://sigma.octopart.com:80/conflict_mineral_statement/Bourns-company-36.pdf?src-supplier=Compliance+Statements
footprint RESC6331X80N
pins: 1, 2

## EEE-1HA2R2SR
designator C?
Radial Can - SMD ALUMINUM ELECTROLYTIC CAPACITOR S 50V 2.2muF ±20% 0.157Dia 4.00mm; Manufacturer: Panasonic; Value: 2.2µF; Dielectric Material: Aluminium; Dissipation Factor: 12%; Lead Length: 1.8mm; Leakage Current: 3µA; Life (Hours): 2000hours; Polarity: Polar; Ripple Current: 16mA; Supplier: Farnell; Supplier Part Number: 9697071; Manufacturer Part Number: EEE-1HA2R2SR; RoHS: Compliant; Category: Aluminum Electrolytic Capacitors; Stock: 716; Pricing: 5=0.173, 50=0.117, 250=0.107, 500=0.0852, 1000=0.0776 (EUR); Case/Package: Radial; China RoHS: Compliant; Contact Plating: Tin; Diameter: 4mm; Height: 5.4mm; Height - Seated (Max): 5.4102mm; Lead Free: Lead Free; Lead Pitch: 1mm; Length: 4.3mm; Lifecycle Status: NRND; Max Operating Temperature: 85°C; Min Operating Temperature: -40°C; Mounting Technology: Surface Mount; Pins: 2; Number of Terminals: 2; Packaging: Cut Tape; Radiation Hardening: No; REACH SVHC: Yes; Ripple Current (AC): 16mA; Schedule B: 8532220020, 8532220020|8532220020|8532220020|8532220020|8532220020|8532220020|8532220020|8532220020|8532220020|8532220020|8532220020|8532220020|8532220020|8532220020|8532220020|8532220020|8532220020|8532220020|8532220020|8532220020|8532220020|8532220020|8532220020|85; Termination: SMD/SMT; Tolerance: 20%; Voltage: 50V; Voltage Rating: 50V; Voltage Rating (AC): 50V; Voltage Rating (DC): 50V; Width: 4.3mm; ComponentLink1URL: https://datasheet.octopart.com:443/EEE-1HA2R2SR-Panasonic-datasheet-13265900.pdf?src-supplier=RS+(Formerly+Allied+Electronics); ComponentLink1Description: https://datasheet.octopart.com:443/EEE-1HA2R2SR-Panasonic-datasheet-13265900.pdf?src-supplier=RS+(Formerly+Allied+Electronics); ComponentLink2URL: https://datasheet.octopart.com:443/EEE-1HA2R2SR-Panasonic-datasheet-41169183.pdf?src-supplier=Newark; ComponentLink2Description: https://datasheet.octopart.com:443/EEE-1HA2R2SR-Panasonic-datasheet-41169183.pdf?src-supplier=Newark; ComponentLink3URL: https://datasheet.octopart.com:443/EEE-1HA2R2SR-Panasonic-datasheet-1290.pdf?src-supplier=Newark; ComponentLink3Description: https://datasheet.octopart.com:443/EEE-1HA2R2SR-Panasonic-datasheet-1290.pdf?src-supplier=Newark; ComponentLink4URL: https://datasheet.octopart.com:443/EEE1HA2R2SR-Panasonic-datasheet-136608603.pdf?src-supplier=Newark; ComponentLink4Description: https://datasheet.octopart.com:443/EEE1HA2R2SR-Panasonic-datasheet-136608603.pdf?src-supplier=Newark; ComponentLink5URL: https://datasheet.octopart.com:443/EEE-1HA2R2SR-Panasonic-datasheet-62330071.pdf?src-supplier=Panasonic+SCT; ComponentLink5Description: https://datasheet.octopart.com:443/EEE-1HA2R2SR-Panasonic-datasheet-62330071.pdf?src-supplier=Panasonic+SCT; ComponentLink6URL: https://sigma.octopart.com:443/150570760/technical_drawing/Panasonic-EEE1HA2R2SR.pdf?src-supplier=Panasonic+SCT; ComponentLink6Description: https://sigma.octopart.com:443/150570760/technical_drawing/Panasonic-EEE1HA2R2SR.pdf?src-supplier=Panasonic+SCT; ComponentLink7URL: https://datasheet.octopart.com:443/EEE-1HA2R2SR-Panasonic-datasheet-34230028.pdf?src-supplier=Farnell; ComponentLink7Description: https://datasheet.octopart.com:443/EEE-1HA2R2SR-Panasonic-datasheet-34230028.pdf?src-supplier=Farnell; ComponentLink8URL: https://datasheet.octopart.com:443/EEE1HA2R2SR-Panasonic-datasheet-7555708.pdf?src-supplier=Farnell; ComponentLink8Description: https://datasheet.octopart.com:443/EEE1HA2R2SR-Panasonic-datasheet-7555708.pdf?src-supplier=Farnell; ComponentLink9URL: https://datasheet.octopart.com:443/EEE1HA2R2SR-Panasonic-datasheet-5318435.pdf?src-supplier=Farnell; ComponentLink9Description: https://datasheet.octopart.com:443/EEE1HA2R2SR-Panasonic-datasheet-5318435.pdf?src-supplier=Farnell; ComponentLink10URL: https://datasheet.octopart.com:443/EEE1HA2R2SR-Panasonic-datasheet-5316599.pdf?src-supplier=Farnell; ComponentLink10Description: https://datasheet.octopart.com:443/EEE1HA2R2SR-Panasonic-datasheet-5316599.pdf?src-supplier=Farnell; ComponentLink11URL: https://datasheet.octopart.com:443/EEE1HA2R2SR-Panasonic-datasheet-5390910.pdf?src-supplier=Farnell; ComponentLink11Description: https://datasheet.octopart.com:443/EEE1HA2R2SR-Panasonic-datasheet-5390910.pdf?src-supplier=Farnell; ComponentLink12URL: https://datasheet.octopart.com:443/EEE1HA2R2SR-Panasonic-datasheet-7550061.pdf?src-supplier=Farnell; ComponentLink12Description: https://datasheet.octopart.com:443/EEE1HA2R2SR-Panasonic-datasheet-7550061.pdf?src-supplier=Farnell; ComponentLink13URL: https://datasheet.octopart.com:443/EEE1HA2R2SR-Panasonic-datasheet-8161.pdf?src-supplier=Farnell; ComponentLink13Description: https://datasheet.octopart.com:443/EEE1HA2R2SR-Panasonic-datasheet-8161.pdf?src-supplier=Farnell; ComponentLink14URL: https://datasheet.octopart.com:443/EEE1HA2R2SR-Panasonic-datasheet-1770.pdf?src-supplier=Farnell; ComponentLink14Description: https://datasheet.octopart.com:443/EEE1HA2R2SR-Panasonic-datasheet-1770.pdf?src-supplier=Farnell; ComponentLink15URL: https://datasheet.octopart.com:443/EEE1HA2R2SR-Panasonic-datasheet-2601.pdf?src-supplier=Farnell; ComponentLink15Description: https://datasheet.octopart.com:443/EEE1HA2R2SR-Panasonic-datasheet-2601.pdf?src-supplier=Farnell; ComponentLink16URL: https://datasheet.octopart.com:443/EEE1HA2R2SR-Panasonic-datasheet-122249.pdf?src-supplier=Farnell; ComponentLink16Description: https://datasheet.octopart.com:443/EEE1HA2R2SR-Panasonic-datasheet-122249.pdf?src-supplier=Farnell; ComponentLink17URL: https://datasheet.octopart.com:443/EEE1HA2R2SR-Panasonic-datasheet-4056.pdf?src-supplier=Farnell; ComponentLink17Description: https://datasheet.octopart.com:443/EEE1HA2R2SR-Panasonic-datasheet-4056.pdf?src-supplier=Farnell; ComponentLink18URL: https://datasheet.octopart.com:443/EEE-1HA2R2SR-Panasonic-datasheet-5314063.pdf?src-supplier=Future+Electronics; ComponentLink18Description: https://datasheet.octopart.com:443/EEE-1HA2R2SR-Panasonic-datasheet-5314063.pdf?src-supplier=Future+Electronics; ComponentLink19URL: https://datasheet.octopart.com:443/EEE-1HA2R2SR-Panasonic-datasheet-154766114.pdf?src-supplier=Master+Electronics; ComponentLink19Description: https://datasheet.octopart.com:443/EEE-1HA2R2SR-Panasonic-datasheet-154766114.pdf?src-supplier=Master+Electronics; ComponentLink20URL: https://datasheet.octopart.com:443/EEE-1HA2R2SR-Panasonic-datasheet-11548988.pdf?src-supplier=Arrow+Electronics; ComponentLink20Description: https://datasheet.octopart.com:443/EEE-1HA2R2SR-Panasonic-datasheet-11548988.pdf?src-supplier=Arrow+Electronics; ComponentLink21URL: https://datasheet.octopart.com:443/EEE1HA2R2SR-Panasonic-datasheet-150469818.pdf?src-supplier=TME; ComponentLink21Description: https://datasheet.octopart.com:443/EEE1HA2R2SR-Panasonic-datasheet-150469818.pdf?src-supplier=TME; ComponentLink22URL: https://datasheet.octopart.com:443/EEE1HA2R2SR-Panasonic-datasheet-147453673.pdf?src-supplier=Electro+Sonic; ComponentLink22Description: https://datasheet.octopart.com:443/EEE1HA2R2SR-Panasonic-datasheet-147453673.pdf?src-supplier=Electro+Sonic; ComponentLink23URL: https://datasheet.octopart.com:443/EEE-1HA2R2SR-Panasonic-datasheet-6019.pdf?src-supplier=DigiKey; ComponentLink23Description: https://datasheet.octopart.com:443/EEE-1HA2R2SR-Panasonic-datasheet-6019.pdf?src-supplier=DigiKey
footprint CAP_EEE_B_PAN
pins: 1, 2

## LTC4380IMS-4#PBF
designator *
Surge Suppressors Low Quiescent Current Surge Stopper with Adjustable Clamp and Retry; Manufacturer: Analog Devices; Manufacturer Part Number: LTC4380IMS-4#PBF; Manufacturer Lifecycle Status: PRODUCTION; Clamping Voltage: 13.5V; Max Junction Temperature (Tj): 150°C; Max Supply Voltage: 72V; Min Supply Voltage: 4V; Number of Channels: 1; Turn-Off Delay Time: 1µs; Turn-On Delay Time: 5ms; Supplier: Farnell; Supplier Part Number: 4026042; RoHS: Compliant; Category: Hot Swap Controllers; Stock: 9; Pricing: 1=7.58, 10=5.86, 50=4.9, 100=4.51, 250=4.24, 500=4.17 (EUR); Case/Package: MSOP; Height: 1.1mm; Lifecycle Status: Production; Max Operating Temperature: 85°C; Min Operating Temperature: -40°C; Number of Circuits: 1; Number of Outputs: 1; Pins: 10; REACH SVHC: No; Schedule B: 8542390000|8542390000|8542390000|8542390000|8542390000; Working Voltage: 72V; ComponentLink1URL: https://octopart.com:443/opatz8j6/c1?t=h2IrznR5eSaJAUshtSnX-7fd8YYv1cCmiw0D3Gpw0NLAxgpayMfZ2nCfMYQ5nNssCjWicyAlpfaoO3s1q8HfkNGYI9t1Xh8oWA-eVV15AeR2daFqa7zGsMI6NZqT5Rx38ZXZImoLxsJVnept4gD2oi9t4cYKfuPOriHgul10sKoH30favK4G_x8x6HKFZvNzfc1I7Nw7IJwdWqkPBvbAU36bjoVAZUKHmfTDIwubdnJyfl9Z1e7O1d61BfWBI_fbKXV73bvIAXcblRE4kRcgorZW2bYW-8j0FDQCNLdC2ZfHI5kO-756iHY&src-supplier=Analog+Devices; ComponentLink1Description: https://octopart.com:443/opatz8j6/c1?t=h2IrznR5eSaJAUshtSnX-7fd8YYv1cCmiw0D3Gpw0NLAxgpayMfZ2nCfMYQ5nNssCjWicyAlpfaoO3s1q8HfkNGYI9t1Xh8oWA-eVV15AeR2daFqa7zGsMI6NZqT5Rx38ZXZImoLxsJVnept4gD2oi9t4cYKfuPOriHgul10sKoH30favK4G_x8x6HKFZvNzfc1I7Nw7IJwdWqkPBvbAU36bjoVAZUKHmfTDIwubdnJyfl9Z1e7O1d61BfWBI_fbKXV73bvIAXcblRE4kRcgorZW2bYW-8j0FDQCNLdC2ZfHI5kO-756iHY&src-supplier=Analog+Devices; ComponentLink2URL: https://datasheet.octopart.com:443/LTC4380IMS-4%23PBF-Analog-Devices-datasheet-141413061.pdf?src-supplier=element14+APAC; ComponentLink2Description: https://datasheet.octopart.com:443/LTC4380IMS-4%23PBF-Analog-Devices-datasheet-141413061.pdf?src-supplier=element14+APAC; ComponentLink3URL: https://datasheet.octopart.com:443/LTC4380IMS-4%23PBF-Linear-Technology-datasheet-62332259.pdf?src-supplier=element14+APAC; ComponentLink3Description: https://datasheet.octopart.com:443/LTC4380IMS-4%23PBF-Linear-Technology-datasheet-62332259.pdf?src-supplier=element14+APAC; ComponentLink4URL: https://datasheet.octopart.com:443/LTC4380IMS-4%23PBF-Linear-Technology-datasheet-94060771.pdf?src-supplier=element14+APAC; ComponentLink4Description: https://datasheet.octopart.com:443/LTC4380IMS-4%23PBF-Linear-Technology-datasheet-94060771.pdf?src-supplier=element14+APAC; ComponentLink5URL: https://datasheet.octopart.com:443/LTC4380IMS-4%23PBF-Linear-Technology-datasheet-67356455.pdf?src-supplier=element14+APAC; ComponentLink5Description: https://datasheet.octopart.com:443/LTC4380IMS-4%23PBF-Linear-Technology-datasheet-67356455.pdf?src-supplier=element14+APAC; ComponentLink6URL: https://datasheet.octopart.com:443/LTC4380IMS-4%23PBF-Linear-Technology-datasheet-62336373.pdf?src-supplier=Newark; ComponentLink6Description: https://datasheet.octopart.com:443/LTC4380IMS-4%23PBF-Linear-Technology-datasheet-62336373.pdf?src-supplier=Newark; ComponentLink7URL: https://datasheet.octopart.com:443/LTC4380IMS-4%23PBF-Analog-Devices-datasheet-48003674.pdf?src-supplier=Newchip+Electronics+Limited; ComponentLink7Description: https://datasheet.octopart.com:443/LTC4380IMS-4%23PBF-Analog-Devices-datasheet-48003674.pdf?src-supplier=Newchip+Electronics+Limited; ComponentLink8URL: https://sigma.octopart.com:443/57693147/technical_drawing/Linear-Technology-LTC4380IMS-4%23PBF.pdf?src-supplier=Linear+Technology; ComponentLink8Description: https://sigma.octopart.com:443/57693147/technical_drawing/Linear-Technology-LTC4380IMS-4%23PBF.pdf?src-supplier=Linear+Technology; ComponentLink9URL: http://sigma.octopart.com:80/conflict_mineral_statement/Analog-Devices-company-33.pdf?src-supplier=Compliance+Statements; ComponentLink9Description: http://sigma.octopart.com:80/conflict_mineral_statement/Analog-Devices-company-33.pdf?src-supplier=Compliance+Statements; ComponentLink10URL: https://octopart.com:443/opatz8j6/c1?t=xRYccUTA78I0JaZu68F1fIdUAMvNTxch4UAmSOjflCGm_vze-IJi1GRQxX67OQchKA6ZhyIdNBaMGJohTsv7fYyfOy8kbrKt2BX9AoaehrXmOtTSrsOh050dw_1NMbosgV1Ti4M2uLH8sSZQ1E7W1ayXDnkjKImGsUAYAAo-jghQsuRnqTCubVbJOeiHAcbE7z01ExMunlzc-scE6gqbqRx_S2GyxL0tHgERpXJYs5hc1wHgOXzGp8fs7SXA6hSAnqKpu5OYpxlK58VoteqUe6fFPBTnQSusa6y1jBYaNKNTMDLQFv-VejU&src-supplier=Compliance+Statements; ComponentLink10Description: https://octopart.com:443/opatz8j6/c1?t=xRYccUTA78I0JaZu68F1fIdUAMvNTxch4UAmSOjflCGm_vze-IJi1GRQxX67OQchKA6ZhyIdNBaMGJohTsv7fYyfOy8kbrKt2BX9AoaehrXmOtTSrsOh050dw_1NMbosgV1Ti4M2uLH8sSZQ1E7W1ayXDnkjKImGsUAYAAo-jghQsuRnqTCubVbJOeiHAcbE7z01ExMunlzc-scE6gqbqRx_S2GyxL0tHgERpXJYs5hc1wHgOXzGp8fs7SXA6hSAnqKpu5OYpxlK58VoteqUe6fFPBTnQSusa6y1jBYaNKNTMDLQFv-VejU&src-supplier=Compliance+Statements
footprint LTC4380IMS-4#PBF
pins: 1 DRN, 2 VCC (power), 3 GATE, 4 SNS (in), 5 OUT (out), 6 SEL (in), 7 ~{FLT} (in), 8 GND (power), 9 ON (in), 10 TMR (in)

## MDMK2020T1R0MMV
designator L?  value 1µH  (hidden comment: MDMK2020T1R0MMV)
Inductor Power Shielded Wirewound 1uH 20% 1MHz Metal 1.9A 0.064Ohm DCR Automotive T/R; Manufacturer: Taiyo Yuden; DC Resistance (DCR): 64mΩ; Max Saturation Current: 2.55A; Number of Circuits: 1; Saturation Current: 2.9A; Shielding: No; Temperature Rise Current: 2.05A; Supplier: DigiKey; Supplier Part Number: 587-4110-1-ND; Manufacturer Part Number: MDMK2020T1R0MMV; RoHS: Compliant; Category: Fixed Inductors; Stock: 4551; Pricing: 1=0.49, 10=0.399, 25=0.3692, 50=0.348, 100=0.3282, 250=0.30356, 500=0.28622, 1000=0.26987 (USD); Case/Package: 0808; Case Code (Imperial): 0808; Composition: Wirewound; Core Material: Metal; Current Rating: 1.9A; Height: 1.2mm; Height - Seated (Max): 1.1938mm; Length: 2.0066mm; Lifecycle Status: Production; Max Current Rating: 1.9A; Max DC Current: 1.9A; Max Length: 2.15mm; Max Operating Temperature: 125°C; Max Temperature Rise Current: 1.9A; Max Width: 2.15mm; Min Length: 1.85mm; Min Operating Temperature: -40°C; Min Width: 1.85mm; Mounting Technology: Surface Mount; Number of Terminals: 2; Packaging: Tape & Reel (TR); Ratings: AEC-Q200; REACH SVHC: Yes; Termination: SMD/SMT; Test Frequency: 1MHz; Tolerance: 20%; Width: 2mm; ComponentLink1URL: https://datasheet.octopart.com:443/MDMK2020T1R0MMV-Taiyo-Yuden-datasheet-181261916.pdf?src-supplier=IHS; ComponentLink1Description: https://datasheet.octopart.com:443/MDMK2020T1R0MMV-Taiyo-Yuden-datasheet-181261916.pdf?src-supplier=IHS; ComponentLink2URL: https://datasheet.octopart.com:443/MDMK2020T1R0MMV-Taiyo-Yuden-datasheet-141253780.pdf?src-supplier=Taiyo+Yuden+SCT; ComponentLink2Description: https://datasheet.octopart.com:443/MDMK2020T1R0MMV-Taiyo-Yuden-datasheet-141253780.pdf?src-supplier=Taiyo+Yuden+SCT
footprint IND_MDMK2020T1R0MM_TAY
pins: 1, 2

## MP2313GJ-P
designator U?
Switching Voltage Regulators High Effic 1A,24V, 2MHz Syn StepDw Conv
footprint TSOT23-8_MP2313_MNP
pins: 1 AAM, 2 IN, 3 SW, 4 GND, 5 BST, 6 EN, 7 VCC, 8 FB